# Altium footprint library PcbLib2.PcbLib: 2 footprints
Each footprint in its own frame and in the unit in brackets; x right, y up, seen from the top. Pads: shape width x height; smd on the part's side, far side on the other; paste and mask are expansions set on the pad; w line width, h text height; cw(c..) or ccw(c..) is an arc to the next point about the centre after c.
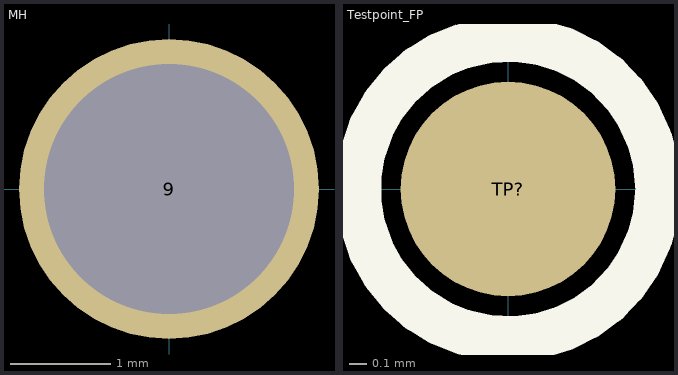
[diagram p0: the footprints below, top view; thin cyan lines are the x and y axes]

## MH [mm]
pads (1):
  round 3 hole 2.5: 9(0,0)

## Testpoint_FP [mm]
height 0.03
pads (1):
  round 1.2 smd paste-0.6: TP?(0,0)
Top Overlay:
  circle w0.254: c0,0 r0.838
3D body: height 0.03, standoff 0, extent -0.6,-0.6 0.6,0.6